# EAGLE library part SS-18F08 (library logick)
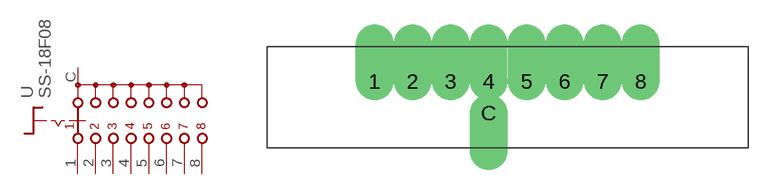
[diagram p2: symbol with the pads of SS-18F08; footprint SS-18F08]

Designator prefix -

## SS-18F08  [SS-18F08]
1  1  pas
2  2  pas
3  3  pas
4  4  pas
5  5  pas
6  6  pas
7  7  pas
8  8  pas
C  C  pas

## Footprint SS-18F08 (pad centres in mm)
drill 2 pad 2.184 offset: 1 -10.5,1.25; 2 -7.5,1.25; 3 -4.5,1.25; 4 -1.5,1.25; 5 1.5,1.25; 6 4.5,1.25; 7 7.5,1.25; 8 10.5,1.25; C -1.5,-1.25